# Altium schematic symbol library SeniorProject.SchLib: 29 symbols
Pins are listed as number, name and electrical type; pins without a type are passive.

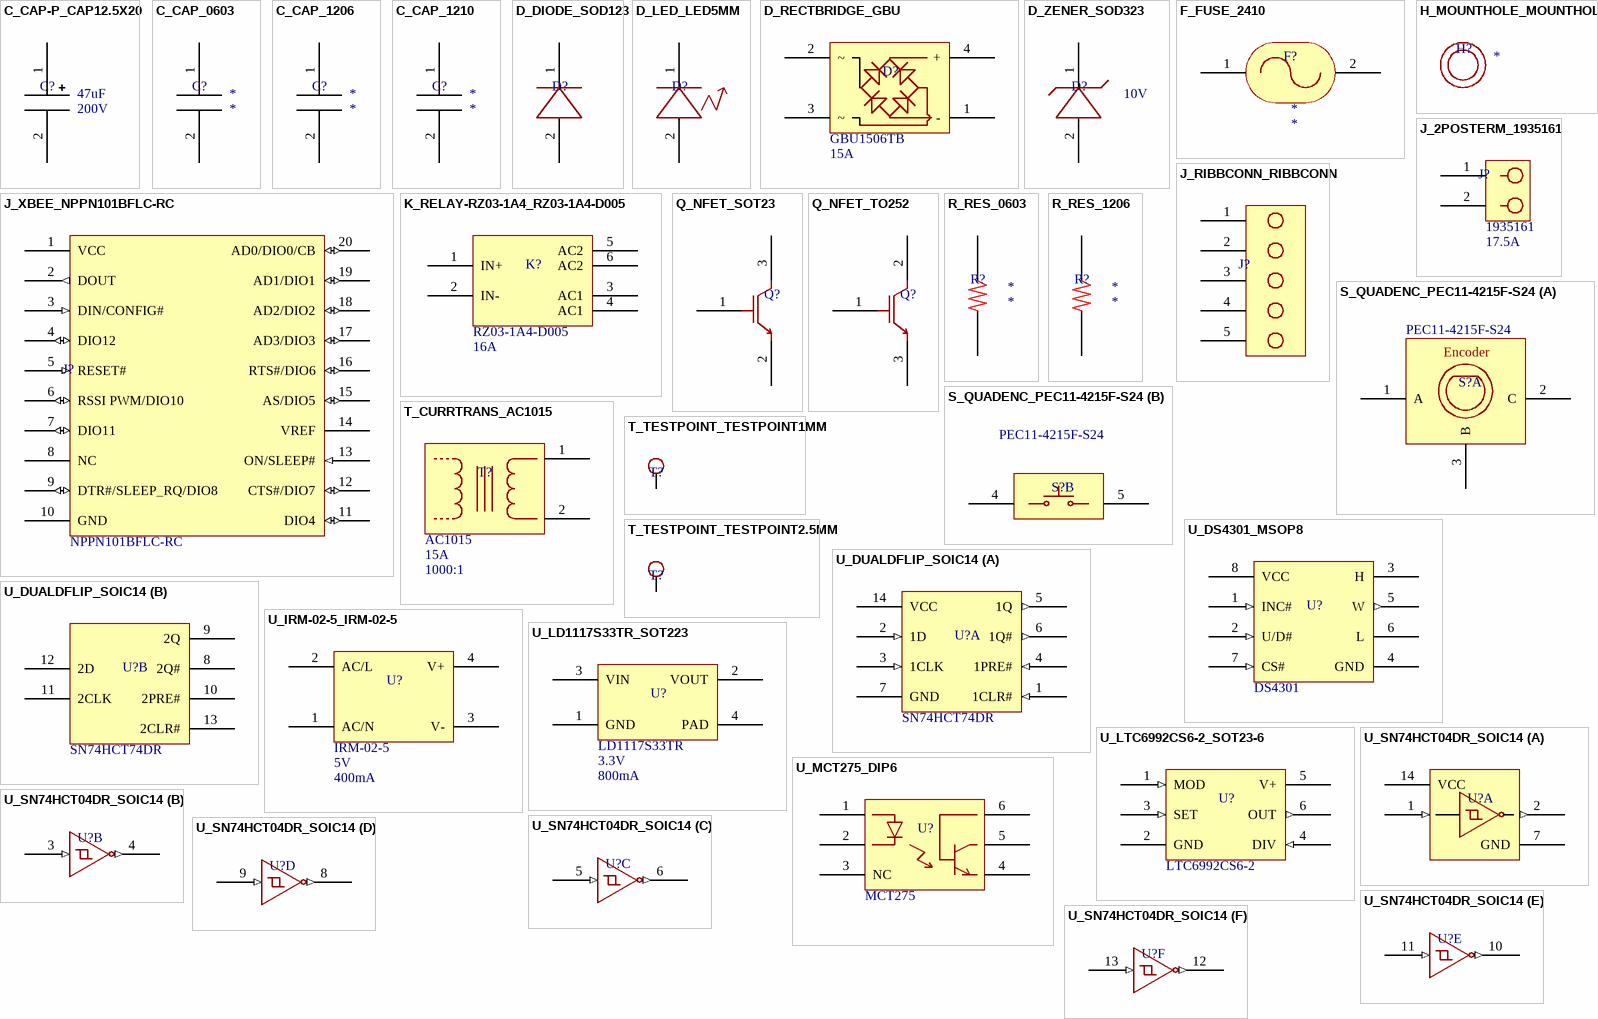
[diagram p0: symbols C_CAP-P_CAP12.5X20 to U_SN74HCT04DR_SOIC14]

## C_CAP-P_CAP12.5X20
designator C?, comment value 47uF  Rating: 200V  (hidden comment: CAP)
PartNumber: UVR2D470MHD1TO; Manufacturer: Nichicon
footprint CAP12.5X20
pins: 1, 2

## C_CAP_0603
designator C?
PartNumber: *; Manufacturer: *; Rating: *; Value: *
footprint 0603
pins: 1, 2

## C_CAP_1206
designator C?, comment CAP  (value not drawn)
PartNumber: *; Manufacturer: *; Value: *; Rating: *
footprint 1206
pins: 1, 2

## C_CAP_1210
designator C?
PartNumber: *; Manufacturer: *; Value: *; Rating: *
footprint 1210
pins: 1, 2

## D_DIODE_SOD123
designator D?  (value not drawn)
PartNumber: BAS16GWJ; Manufacturer: Nexperia USA Inc; Rating: 215mA
footprint SOD123
pins: 1, 2

## D_LED_LED5MM
designator D?
footprint LED5MM
pins: 1, 2

## D_RECTBRIDGE_GBU
designator D?  Rating: 15A  PartNumber: GBU1506TB
Manufacturer: SMC Diode Solutions
footprint GBU
pins: 1 -, 2 ~ (power), 3 ~, 4 +

## D_ZENER_SOD323
designator D?  value 10V  (hidden comment: *)
PartNumber: MM3Z10VT1G; Manufacturer: On Semiconductor; Rating: 300mW
footprint SOD323
pins: 1, 2

## F_FUSE_2410
designator F?
PartNumber: *; Manufacturer: *; Rating: *; Value: *
footprint 2410
pins: 1, 2

## H_MOUNTHOLE_MOUNTHOLE4MM
designator H?
PartNumber: *; Value: *
footprint MOUNTHOLE4MM

## J_2POSTERM_1935161
designator J?  PartNumber: 1935161  Rating: 17.5A
Manufacturer: Phoenix Contact
footprint 1935161
pins: 1, 2

## J_RIBBCONN_RIBBCONN
designator J?
footprint RIBBCONN
pins: 1, 2, 3, 4, 5

## J_XBEE_NPPN101BFLC-RC
designator J?  PartNumber: NPPN101BFLC-RC  Rating: 1A
Manufacturer: Sullins Connector Solutions
footprint NPPN101BFLC-RC
pins: 1 VCC (power), 2 DOUT (out), 3 DIN/CONFIG# (in), 4 DIO12 (io), 5 RESET# (in), 6 RSSI PWM/DIO10 (io), 7 DIO11 (io), 8 NC, 9 DTR#/SLEEP_RQ/DIO8 (io), 10 GND (power), 11 DIO4 (io), 12 CTS#/DIO7 (io), 13 ON/SLEEP# (in), 14 VREF (power), 15 AS/DIO5 (io), 16 RTS#/DIO6 (io), 17 AD3/DIO3 (io), 18 AD2/DIO2 (io), 19 AD1/DIO1 (io), 20 AD0/DIO0/CB (io)

## K_RELAY-RZ03-1A4_RZ03-1A4-D005
designator K?  PartNumber: RZ03-1A4-D005  Rating: 16A  (hidden comment: *)
Manufacturer: TE Connectivity / Potter and Brumfield
footprint RZ03-1A4-D005
pins: 1 IN+, 2 IN-, 3 AC1, 4 AC1, 5 AC2, 6 AC2

## Q_NFET_SOT23
designator Q?  (value not drawn)
Manufacturer: On Semiconductor; PartNumber: BSS138; Rating: 220mA
footprint SOT23
pins: 1 G, 2 S, 3 D

## Q_NFET_TO252
designator Q?
Manufacturer: Infineon Technologies; PartNumber: IPD50R280CEAUMA1; Rating: 18.1A
footprint TO252
pins: 1 G, 2 D, 3 S

## R_RES_0603
designator R?
PartNumber: *; Manufacturer: *; Value: *; Rating: *
footprint 0603
pins: 1, 2

## R_RES_1206
designator R?
PartNumber: *; Manufacturer: *; Value: *; Rating: *
footprint 1206
pins: 1, 2

## S_QUADENC_PEC11-4215F-S24
designator S?  PartNumber: PEC11-4215F-S24  (hidden comment: *)
Manufacturer: Bourns
footprint PEC11-4215F-S24
part A pins: 1 A, 2 C, 3 B
part B pins: 4, 5
part A text: Encoder

## T_CURRTRANS_AC1015
designator T?  value 1000:1  Rating: 15A  PartNumber: AC1015
Manufacturer: Acme Electric/Amveco/Actown
footprint AC1015
pins: 1, 2

## T_TESTPOINT_TESTPOINT1MM
designator T?, comment TESTPOINT  (value not drawn)
Value: 1mm
footprint TESTPOINT1MM
pins: 1

## T_TESTPOINT_TESTPOINT2.5MM
designator T?, comment TESTPOINT  (value not drawn)
Value: 2.54mm
footprint TESTPOINT2.5MM
pins: 1

## U_DS4301_MSOP8
designator U?  PartNumber: DS4301  (hidden comment: *)
Manufacturer: Maxim; Value: 200K
footprint MSOP8
pins: 1 INC# (in), 2 U/D# (in), 3 H, 4 GND (power), 5 W (out), 6 L, 7 CS# (in), 8 VCC (power)

## U_DUALDFLIP_SOIC14
designator U?  PartNumber: SN74HCT74DR  (hidden comment: *)
Manufacturer: TI
footprint SOIC14
part A pins: 1 1CLR# (in), 2 1D (in), 3 1CLK (in), 4 1PRE# (in), 5 1Q (out), 6 1Q# (out), 7 GND (power), 14 VCC (power)
part B pins: 8 2Q#, 9 2Q, 10 2PRE#, 11 2CLK, 12 2D, 13 2CLR#

## U_IRM-02-5_IRM-02-5
designator U?  value 5V  Rating: 400mA  PartNumber: IRM-02-5
Manufacturer: Mean Well
footprint IRM-02-5
pins: 1 AC/N (power), 2 AC/L (power), 3 V- (power), 4 V+ (power)

## U_LD1117S33TR_SOT223
designator U?  value 3.3V  Rating: 800mA  PartNumber: LD1117S33TR
footprint SOT223
pins: 1 GND, 2 VOUT, 3 VIN (power), 4 PAD

## U_LTC6992CS6-2_SOT23-6
designator U?  PartNumber: LTC6992CS6-2  (hidden comment: *)
Manufacturer: Linear
footprint SOT23-6
pins: 1 MOD (in), 2 GND (power), 3 SET (in), 4 DIV (in), 5 V+ (power), 6 OUT (out)

## U_MCT275_DIP6
designator U?  PartNumber: MCT275
Manufacturer: Vishay
footprint DIP6
pins: 1, 2, 3 NC, 4, 5, 6

## U_SN74HCT04DR_SOIC14
designator U?  (value not drawn)
PartNumber: SN74HCT04DR; Manufacturer: TI
footprint SOIC14
part A pins: 1 (in), 2 (out), 7 GND, 14 VCC
part B pins: 3 (in), 4 (out)
part C pins: 5 (in), 6 (out)
part D pins: 8 (out), 9 (in)
part E pins: 10 (out), 11 (in)
part F pins: 12 (out), 13 (in)